# Altium integrated library TI Data Converters Analog to Digital Converter.IntLib: 2197 symbols (part 46 of 168)
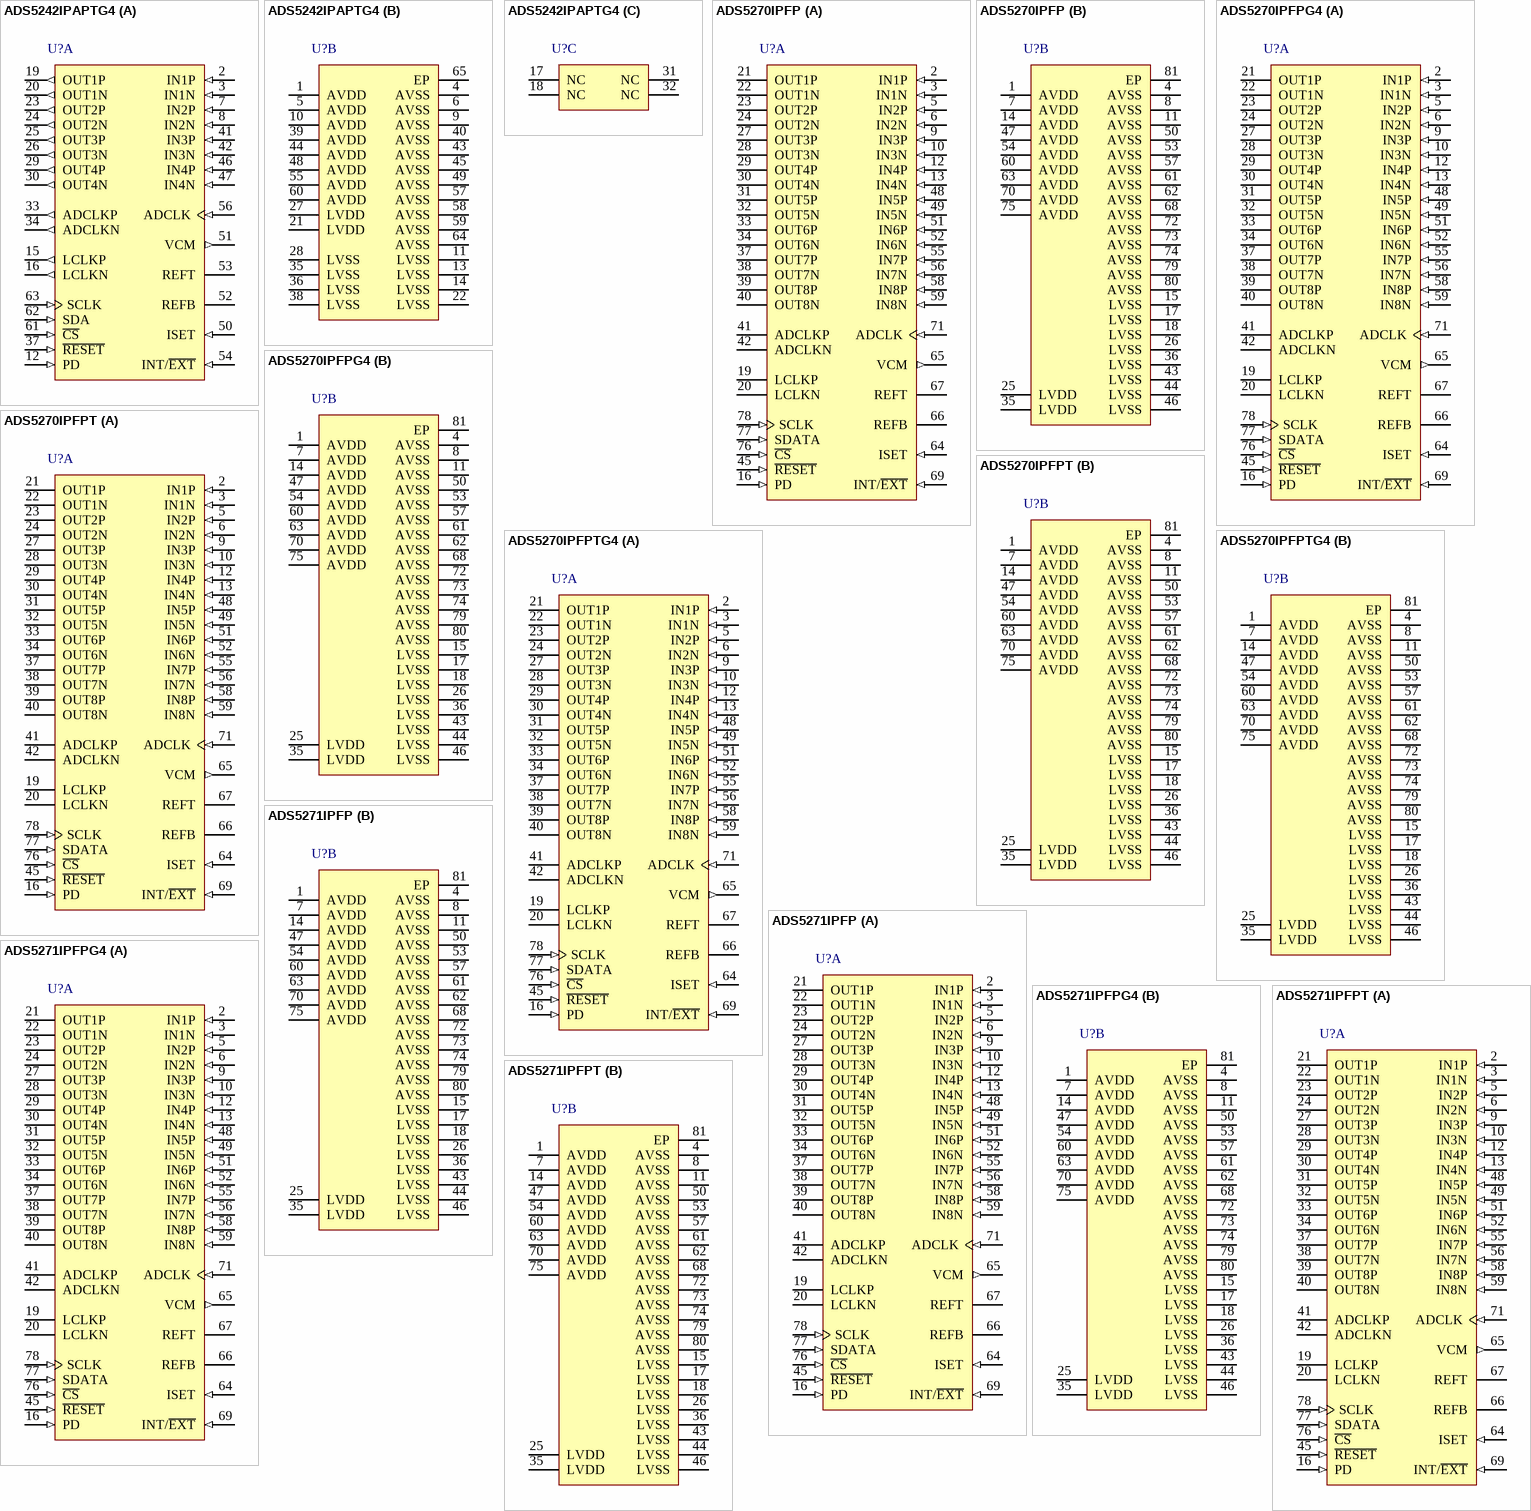
[diagram p171: symbols ADS5242IPAPTG4 to ADS5271IPFPT]

## ADS5271IPFPG4
designator U?
8-Channel, 12-Bit ADC with Serialized LVDS Interface, -40 to 85 degC, 80-pin QFP (PFP80), Green (RoHS & no Sb/Br); Manufacturer: Texas Instruments; PartNumber: ADS5271IPFPG4; # Input Channels: 8; Analog Voltage AV/DD(Max)(V): 3.6; Analog Voltage AV/DD(Min)(V): 3; Architecture: Pipeline; ENOB(Bits): 11.3; INL(Max)(+/-LSB): 2; Interface: Parallel LVDS; Resolution(Bits): 12; Sample Rate (max)(SPS): 50M; SFDR(dB): 87; SINAD(dB): 70; SNR(dB): 70.5; SubFamily: High Speed ADC (>10MSPS); DatasheetVersion: SBAS313C; PackageVersion: 4146925/C, 07/2011; PackageReference: PFP80-5445X5445TP; PackageDescription: 80-Pin PowerPAD(TM) Plastic Quad Flatpack, Body 12 x 12 mm, Pitch 0.5 mm; Supplier 1: Digi-Key; Supplier Part Number 1: 296-2823-5-ND; Supplier 2: Newark; Supplier Part Number 2: 76C6132; Supplier 3: Mouser; Supplier Part Number 3: 595-THS1007IDA; Digital Supply(Max)(V): 3.6; Digital Supply(Min)(V): 3; Eco-Plan: Green (RoHS & no Sb/Br); Mounting Technology: Surface Mount; Code_JEDEC: MS-026; ComponentLink1Description: Manufacturer URL; ComponentLink1URL: http://www.ti.com/; ComponentLink2Description: Datasheet; ComponentLink2URL: http://www.ti.com/general/docs/lit/getliterature.tsp?genericPartNumber=ADS5271&fileType=pdf; ComponentLink3Description: Package Specification; ComponentLink3URL: http://www.ti.com/litv/pdf/mpqf049b
footprint TI-PFP80-5445X5445TP_N (QFP, 80-Leads, Body 12x12mm, Pitch 0.5mm, Thermal Pad 6.2x6.2mm, IPC Medium Density)
footprint TI-PFP80-5445X5445TP_L (QFP, 80-Leads, Body 12x12mm, Pitch 0.5mm, Thermal Pad 6.2x6.2mm, IPC High Density)
footprint TI-PFP80-5445X5445TP_M (QFP, 80-Leads, Body 12x12mm, Pitch 0.5mm, Thermal Pad 6.2x6.2mm, IPC Low Density)
part A pins: 2 IN1P (in) "Channel 1 Differential Analog Input High", 3 IN1N (in) "Channel 1 Differential Analog Input Low", 5 IN2P (in) "Channel 2 Differential Analog Input High", 6 IN2N (in) "Channel 2 Differential Analog Input Low", 9 IN3P (in) "Channel 3 Differential Analog Input High", 10 IN3N (in) "Channel 3 Differential Analog Input Low", 12 IN4P (in) "Channel 4 Differential Analog Input High", 13 IN4N (in) "Channel 4 Differential Analog Input Low", 16 PD (in) "Power-Down; 0 = Normal, 1 = Power-Down. Weak pull-down to ground.", 19 LCLKP (hiz) "Positive LVDS Clock", 20 LCLKN (hiz) "Negative LVDS Clock", 21 OUT1P (hiz) "Channel 1 Positive LVDS Data Output", 22 OUT1N (hiz) "Channel 1 Negative LVDS Data Output", 23 OUT2P (hiz) "Channel 2 Positive LVDS Data Output", 24 OUT2N (hiz) "Channel 2 Negative LVDS Data Output", 27 OUT3P (hiz) "Channel 3 Positive LVDS Data Output", 28 OUT3N (hiz) "Channel 3 Negative LVDS Data Output", 29 OUT4P (hiz) "Channel 4 Positive LVDS Data Output", 30 OUT4N (hiz) "Channel 4 Negative LVDS Data Output", 31 OUT5P (hiz) "Channel 5 Positive LVDS Data Output", 32 OUT5N (hiz) "Channel 5 Negative LVDS Data Output", 33 OUT6P (hiz) "Channel 6 Positive LVDS Data Output", 34 OUT6N (hiz) "Channel 6 Negative LVDS Data Output", 37 OUT7P (hiz) "Channel 7 Positive LVDS Data Output", 38 OUT7N (hiz) "Channel 7 Negative LVDS Data Output", 39 OUT8P (hiz) "Channel 8 Positive LVDS Data Output", 40 OUT8N (hiz) "Channel 8 Negative LVDS Data Output", 41 ADCLKP (hiz) "Positive LVDS ADC Clock Output", 42 ADCLKN (hiz) "Negative LVDS ADC Clock Output", 45 ~{RESET} (in) "Reset to Default; 0 = Reset, 1 = Normal. Weak pull-down to ground.", 48 IN5P (in) "Channel 5 Differential Analog Input High", 49 IN5N (in) "Channel 5 Differential Analog Input Low", 51 IN6P (in) "Channel 6 Differential Analog Input High", 52 IN6N (in) "Channel 6 Differential Analog Input Low", 55 IN7P (in) "Channel 7 Differential Analog Input High", 56 IN7N (in) "Channel 7 Differential Analog Input Low", 58 IN8P (in) "Channel 8 Differential Analog Input High", 59 IN8N (in) "Channel 8 Differential Analog Input Low", 64 ISET (in) "Bias Current Setting Resistor of 56.2kohm to Ground", 65 VCM (out) "Common-Mode Output Voltage", 66 REFB "Reference Bottom Voltage (2ohm resistor in series with a capacitor >= 0.1uF capacitor to ground)", 67 REFT "Reference Top Voltage (2ohm resistor in series with a capacitor >= 0.1uF capacitor to ground)", 69 INT/~{EXT} (in) "Internal/External Reference Select; 0 = External, 1 = Internal. Weak pull-up to supply.", 71 ADCLK (in) "Data Converter Clock Input", 76 ~{CS} (in) "Chip Select; 0 = Select, 1 = No Select", 77 SDATA (in) "Serial Data input", 78 SCLK (in) "Serial Data Clock"
part B pins: 1 AVDD (power) "Analog Power Supply", 4 AVSS (power) "Analog Ground", 7 AVDD (power) "Analog Power Supply", 8 AVSS (power) "Analog Ground", 11 AVSS (power) "Analog Ground", 14 AVDD (power) "Analog Power Supply", 15 LVSS (power) "LVDS Ground", 17 LVSS (power) "LVDS Ground", 18 LVSS (power) "LVDS Ground", 25 LVDD (power) "LVDS Power Supply", 26 LVSS (power) "LVDS Ground", 35 LVDD (power) "LVDS Power Supply", 36 LVSS (power) "LVDS Ground", 43 LVSS (power) "LVDS Ground", 44 LVSS (power) "LVDS Ground", 46 LVSS (power) "LVDS Ground", 47 AVDD (power) "Analog Power Supply", 50 AVSS (power) "Analog Ground", 53 AVSS (power) "Analog Ground", 54 AVDD (power) "Analog Power Supply", 57 AVSS (power) "Analog Ground", 60 AVDD (power) "Analog Power Supply", 61 AVSS (power) "Analog Ground", 62 AVSS (power) "Analog Ground", 63 AVDD (power) "Analog Power Supply", 68 AVSS (power) "Analog Ground", 70 AVDD (power) "Analog Power Supply", 72 AVSS (power) "Analog Ground", 73 AVSS (power) "Analog Ground", 74 AVSS (power) "Analog Ground", 75 AVDD (power) "Analog Power Supply", 79 AVSS (power) "Analog Ground", 80 AVSS (power) "Analog Ground", 81 EP

## ADS5271IPFPT
designator U?
8-Channel, 12-Bit ADC with Serialized LVDS Interface, -40 to 85 degC, 80-pin QFP (PFP80), Green (RoHS & no Sb/Br); Manufacturer: Texas Instruments; PartNumber: ADS5271IPFPT; # Input Channels: 8; Analog Voltage AV/DD(Max)(V): 3.6; Analog Voltage AV/DD(Min)(V): 3; Architecture: Pipeline; ENOB(Bits): 11.3; INL(Max)(+/-LSB): 2; Interface: Parallel LVDS; Resolution(Bits): 12; Sample Rate (max)(SPS): 50M; SFDR(dB): 87; SINAD(dB): 70; SNR(dB): 70.5; SubFamily: High Speed ADC (>10MSPS); DatasheetVersion: SBAS313C; PackageVersion: 4146925/C, 07/2011; PackageReference: PFP80-5445X5445TP; PackageDescription: 80-Pin PowerPAD(TM) Plastic Quad Flatpack, Body 12 x 12 mm, Pitch 0.5 mm; Supplier 1: Digi-Key; Supplier Part Number 1: THS1007IDAG4-ND; Supplier 2: Mouser; Supplier Part Number 2: 595-THS1007IDAG4; Digital Supply(Max)(V): 3.6; Digital Supply(Min)(V): 3; Eco-Plan: Green (RoHS & no Sb/Br); Mounting Technology: Surface Mount; Code_JEDEC: MS-026; ComponentLink1Description: Manufacturer URL; ComponentLink1URL: http://www.ti.com/; ComponentLink2Description: Datasheet; ComponentLink2URL: http://www.ti.com/general/docs/lit/getliterature.tsp?genericPartNumber=ADS5271&fileType=pdf; ComponentLink3Description: Package Specification; ComponentLink3URL: http://www.ti.com/litv/pdf/mpqf049b
footprint TI-PFP80-5445X5445TP_N (QFP, 80-Leads, Body 12x12mm, Pitch 0.5mm, Thermal Pad 6.2x6.2mm, IPC Medium Density)
footprint TI-PFP80-5445X5445TP_L (QFP, 80-Leads, Body 12x12mm, Pitch 0.5mm, Thermal Pad 6.2x6.2mm, IPC High Density)
footprint TI-PFP80-5445X5445TP_M (QFP, 80-Leads, Body 12x12mm, Pitch 0.5mm, Thermal Pad 6.2x6.2mm, IPC Low Density)
part A pins: 2 IN1P (in) "Channel 1 Differential Analog Input High", 3 IN1N (in) "Channel 1 Differential Analog Input Low", 5 IN2P (in) "Channel 2 Differential Analog Input High", 6 IN2N (in) "Channel 2 Differential Analog Input Low", 9 IN3P (in) "Channel 3 Differential Analog Input High", 10 IN3N (in) "Channel 3 Differential Analog Input Low", 12 IN4P (in) "Channel 4 Differential Analog Input High", 13 IN4N (in) "Channel 4 Differential Analog Input Low", 16 PD (in) "Power-Down; 0 = Normal, 1 = Power-Down. Weak pull-down to ground.", 19 LCLKP (hiz) "Positive LVDS Clock", 20 LCLKN (hiz) "Negative LVDS Clock", 21 OUT1P (hiz) "Channel 1 Positive LVDS Data Output", 22 OUT1N (hiz) "Channel 1 Negative LVDS Data Output", 23 OUT2P (hiz) "Channel 2 Positive LVDS Data Output", 24 OUT2N (hiz) "Channel 2 Negative LVDS Data Output", 27 OUT3P (hiz) "Channel 3 Positive LVDS Data Output", 28 OUT3N (hiz) "Channel 3 Negative LVDS Data Output", 29 OUT4P (hiz) "Channel 4 Positive LVDS Data Output", 30 OUT4N (hiz) "Channel 4 Negative LVDS Data Output", 31 OUT5P (hiz) "Channel 5 Positive LVDS Data Output", 32 OUT5N (hiz) "Channel 5 Negative LVDS Data Output", 33 OUT6P (hiz) "Channel 6 Positive LVDS Data Output", 34 OUT6N (hiz) "Channel 6 Negative LVDS Data Output", 37 OUT7P (hiz) "Channel 7 Positive LVDS Data Output", 38 OUT7N (hiz) "Channel 7 Negative LVDS Data Output", 39 OUT8P (hiz) "Channel 8 Positive LVDS Data Output", 40 OUT8N (hiz) "Channel 8 Negative LVDS Data Output", 41 ADCLKP (hiz) "Positive LVDS ADC Clock Output", 42 ADCLKN (hiz) "Negative LVDS ADC Clock Output", 45 ~{RESET} (in) "Reset to Default; 0 = Reset, 1 = Normal. Weak pull-down to ground.", 48 IN5P (in) "Channel 5 Differential Analog Input High", 49 IN5N (in) "Channel 5 Differential Analog Input Low", 51 IN6P (in) "Channel 6 Differential Analog Input High", 52 IN6N (in) "Channel 6 Differential Analog Input Low", 55 IN7P (in) "Channel 7 Differential Analog Input High", 56 IN7N (in) "Channel 7 Differential Analog Input Low", 58 IN8P (in) "Channel 8 Differential Analog Input High", 59 IN8N (in) "Channel 8 Differential Analog Input Low", 64 ISET (in) "Bias Current Setting Resistor of 56.2kohm to Ground", 65 VCM (out) "Common-Mode Output Voltage", 66 REFB "Reference Bottom Voltage (2ohm resistor in series with a capacitor >= 0.1uF capacitor to ground)", 67 REFT "Reference Top Voltage (2ohm resistor in series with a capacitor >= 0.1uF capacitor to ground)", 69 INT/~{EXT} (in) "Internal/External Reference Select; 0 = External, 1 = Internal. Weak pull-up to supply.", 71 ADCLK (in) "Data Converter Clock Input", 76 ~{CS} (in) "Chip Select; 0 = Select, 1 = No Select", 77 SDATA (in) "Serial Data input", 78 SCLK (in) "Serial Data Clock"
part B pins: 1 AVDD (power) "Analog Power Supply", 4 AVSS (power) "Analog Ground", 7 AVDD (power) "Analog Power Supply", 8 AVSS (power) "Analog Ground", 11 AVSS (power) "Analog Ground", 14 AVDD (power) "Analog Power Supply", 15 LVSS (power) "LVDS Ground", 17 LVSS (power) "LVDS Ground", 18 LVSS (power) "LVDS Ground", 25 LVDD (power) "LVDS Power Supply", 26 LVSS (power) "LVDS Ground", 35 LVDD (power) "LVDS Power Supply", 36 LVSS (power) "LVDS Ground", 43 LVSS (power) "LVDS Ground", 44 LVSS (power) "LVDS Ground", 46 LVSS (power) "LVDS Ground", 47 AVDD (power) "Analog Power Supply", 50 AVSS (power) "Analog Ground", 53 AVSS (power) "Analog Ground", 54 AVDD (power) "Analog Power Supply", 57 AVSS (power) "Analog Ground", 60 AVDD (power) "Analog Power Supply", 61 AVSS (power) "Analog Ground", 62 AVSS (power) "Analog Ground", 63 AVDD (power) "Analog Power Supply", 68 AVSS (power) "Analog Ground", 70 AVDD (power) "Analog Power Supply", 72 AVSS (power) "Analog Ground", 73 AVSS (power) "Analog Ground", 74 AVSS (power) "Analog Ground", 75 AVDD (power) "Analog Power Supply", 79 AVSS (power) "Analog Ground", 80 AVSS (power) "Analog Ground", 81 EP

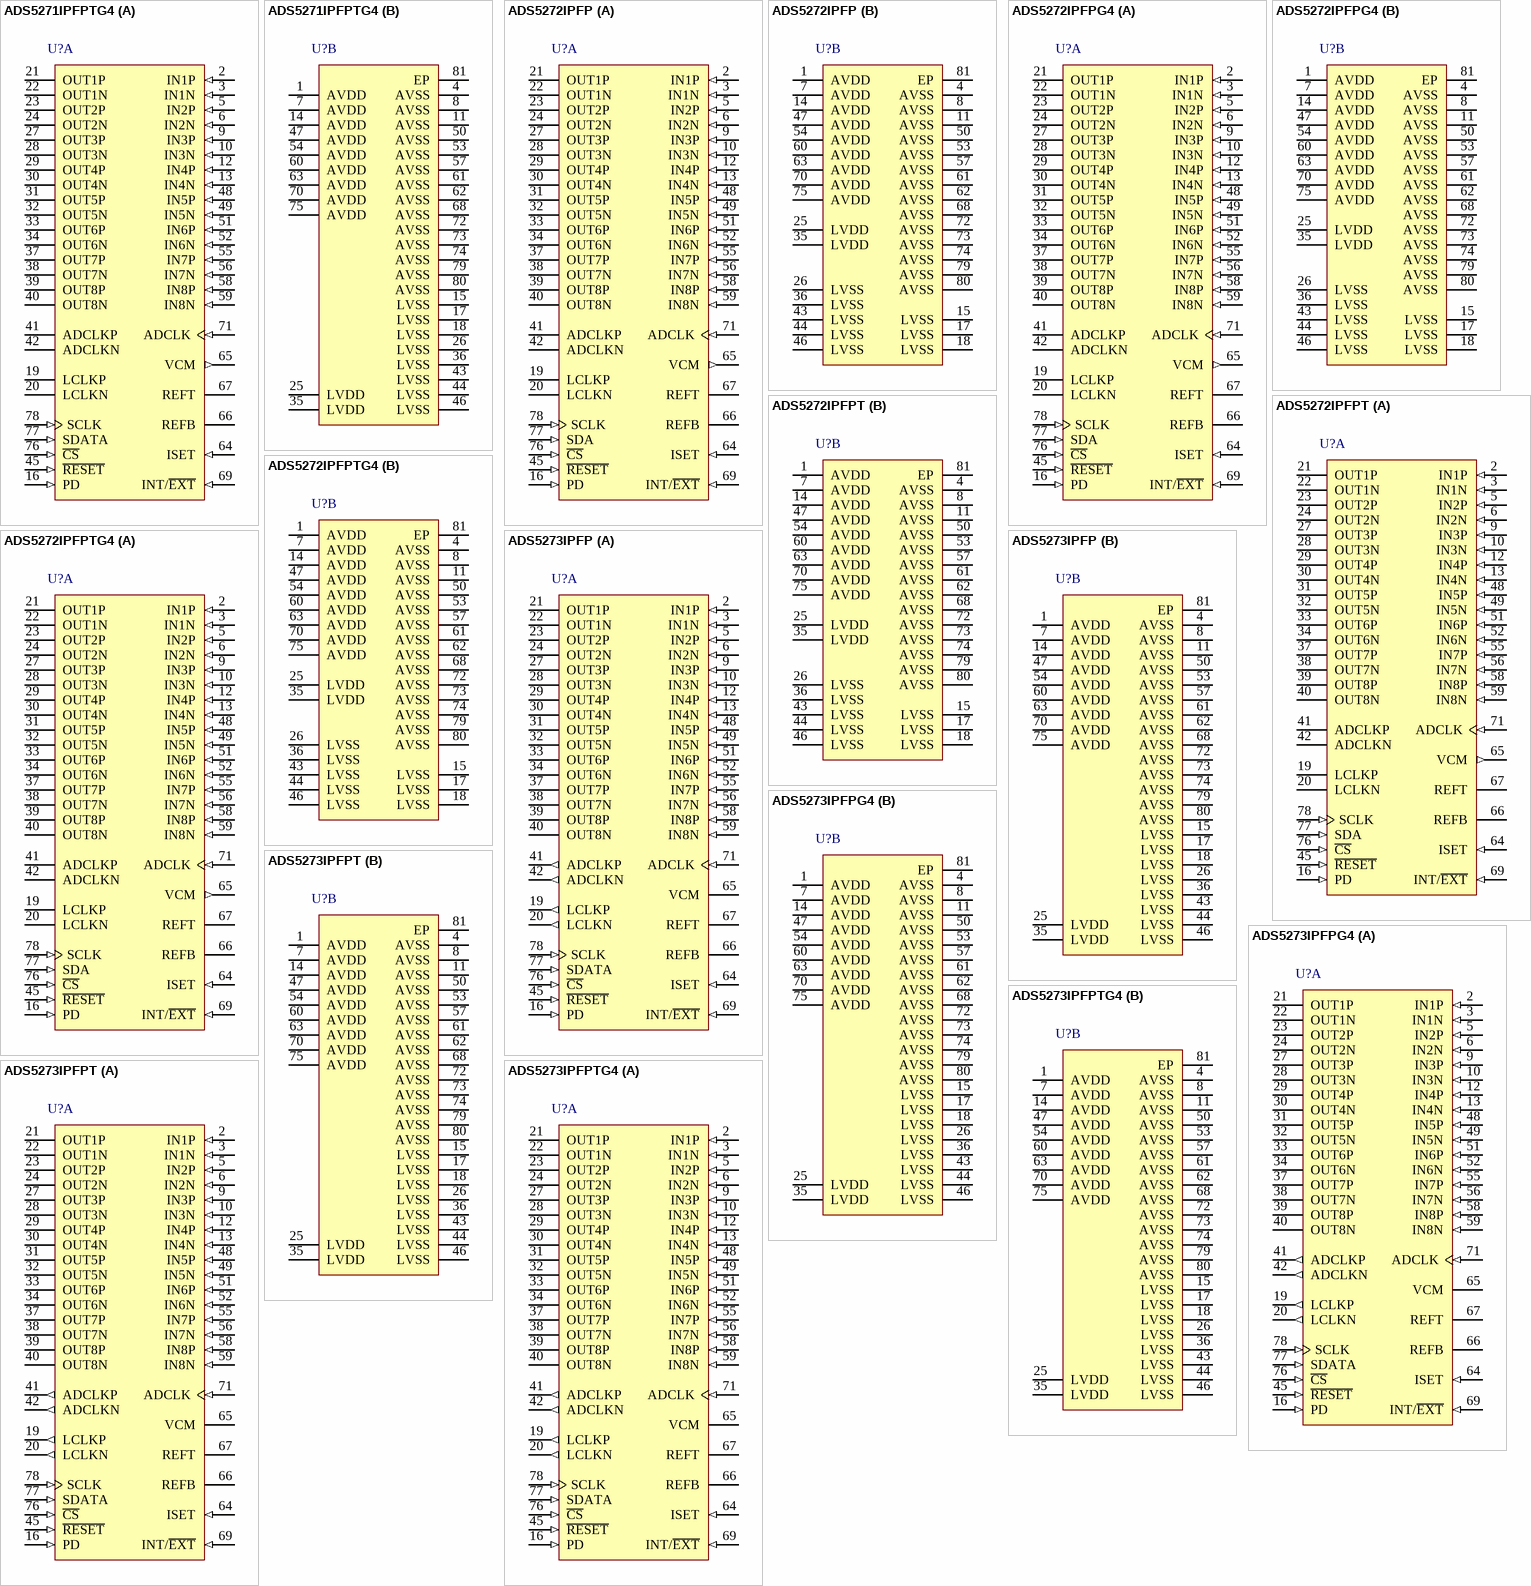
[diagram p42: symbols ADS5271IPFPTG4 to ADS5273IPFPTG4]

## ADS5271IPFPTG4
designator U?
8-Channel, 12-Bit ADC with Serialized LVDS Interface, -40 to 85 degC, 80-pin QFP (PFP80), Green (RoHS & no Sb/Br); Manufacturer: Texas Instruments; PartNumber: ADS5271IPFPTG4; # Input Channels: 8; Analog Voltage AV/DD(Max)(V): 3.6; Analog Voltage AV/DD(Min)(V): 3; Architecture: Pipeline; ENOB(Bits): 11.3; INL(Max)(+/-LSB): 2; Interface: Parallel LVDS; Resolution(Bits): 12; Sample Rate (max)(SPS): 50M; SFDR(dB): 87; SINAD(dB): 70; SNR(dB): 70.5; SubFamily: High Speed ADC (>10MSPS); DatasheetVersion: SBAS313C; PackageVersion: 4146925/C, 07/2011; PackageReference: PFP80-5445X5445TP; PackageDescription: 80-Pin PowerPAD(TM) Plastic Quad Flatpack, Body 12 x 12 mm, Pitch 0.5 mm; Supplier 1: Digi-Key; Supplier Part Number 1: 296-2824-5-ND; Supplier 2: Mouser; Supplier Part Number 2: 595-THS10082IDA; Digital Supply(Max)(V): 3.6; Digital Supply(Min)(V): 3; Eco-Plan: Green (RoHS & no Sb/Br); Mounting Technology: Surface Mount; Code_JEDEC: MS-026; ComponentLink1Description: Manufacturer URL; ComponentLink1URL: http://www.ti.com/; ComponentLink2Description: Datasheet; ComponentLink2URL: http://www.ti.com/general/docs/lit/getliterature.tsp?genericPartNumber=ADS5271&fileType=pdf; ComponentLink3Description: Package Specification; ComponentLink3URL: http://www.ti.com/litv/pdf/mpqf049b
footprint TI-PFP80-5445X5445TP_N (QFP, 80-Leads, Body 12x12mm, Pitch 0.5mm, Thermal Pad 6.2x6.2mm, IPC Medium Density)
footprint TI-PFP80-5445X5445TP_L (QFP, 80-Leads, Body 12x12mm, Pitch 0.5mm, Thermal Pad 6.2x6.2mm, IPC High Density)
footprint TI-PFP80-5445X5445TP_M (QFP, 80-Leads, Body 12x12mm, Pitch 0.5mm, Thermal Pad 6.2x6.2mm, IPC Low Density)
part A pins: 2 IN1P (in) "Channel 1 Differential Analog Input High", 3 IN1N (in) "Channel 1 Differential Analog Input Low", 5 IN2P (in) "Channel 2 Differential Analog Input High", 6 IN2N (in) "Channel 2 Differential Analog Input Low", 9 IN3P (in) "Channel 3 Differential Analog Input High", 10 IN3N (in) "Channel 3 Differential Analog Input Low", 12 IN4P (in) "Channel 4 Differential Analog Input High", 13 IN4N (in) "Channel 4 Differential Analog Input Low", 16 PD (in) "Power-Down; 0 = Normal, 1 = Power-Down. Weak pull-down to ground.", 19 LCLKP (hiz) "Positive LVDS Clock", 20 LCLKN (hiz) "Negative LVDS Clock", 21 OUT1P (hiz) "Channel 1 Positive LVDS Data Output", 22 OUT1N (hiz) "Channel 1 Negative LVDS Data Output", 23 OUT2P (hiz) "Channel 2 Positive LVDS Data Output", 24 OUT2N (hiz) "Channel 2 Negative LVDS Data Output", 27 OUT3P (hiz) "Channel 3 Positive LVDS Data Output", 28 OUT3N (hiz) "Channel 3 Negative LVDS Data Output", 29 OUT4P (hiz) "Channel 4 Positive LVDS Data Output", 30 OUT4N (hiz) "Channel 4 Negative LVDS Data Output", 31 OUT5P (hiz) "Channel 5 Positive LVDS Data Output", 32 OUT5N (hiz) "Channel 5 Negative LVDS Data Output", 33 OUT6P (hiz) "Channel 6 Positive LVDS Data Output", 34 OUT6N (hiz) "Channel 6 Negative LVDS Data Output", 37 OUT7P (hiz) "Channel 7 Positive LVDS Data Output", 38 OUT7N (hiz) "Channel 7 Negative LVDS Data Output", 39 OUT8P (hiz) "Channel 8 Positive LVDS Data Output", 40 OUT8N (hiz) "Channel 8 Negative LVDS Data Output", 41 ADCLKP (hiz) "Positive LVDS ADC Clock Output", 42 ADCLKN (hiz) "Negative LVDS ADC Clock Output", 45 ~{RESET} (in) "Reset to Default; 0 = Reset, 1 = Normal. Weak pull-down to ground.", 48 IN5P (in) "Channel 5 Differential Analog Input High", 49 IN5N (in) "Channel 5 Differential Analog Input Low", 51 IN6P (in) "Channel 6 Differential Analog Input High", 52 IN6N (in) "Channel 6 Differential Analog Input Low", 55 IN7P (in) "Channel 7 Differential Analog Input High", 56 IN7N (in) "Channel 7 Differential Analog Input Low", 58 IN8P (in) "Channel 8 Differential Analog Input High", 59 IN8N (in) "Channel 8 Differential Analog Input Low", 64 ISET (in) "Bias Current Setting Resistor of 56.2kohm to Ground", 65 VCM (out) "Common-Mode Output Voltage", 66 REFB "Reference Bottom Voltage (2ohm resistor in series with a capacitor >= 0.1uF capacitor to ground)", 67 REFT "Reference Top Voltage (2ohm resistor in series with a capacitor >= 0.1uF capacitor to ground)", 69 INT/~{EXT} (in) "Internal/External Reference Select; 0 = External, 1 = Internal. Weak pull-up to supply.", 71 ADCLK (in) "Data Converter Clock Input", 76 ~{CS} (in) "Chip Select; 0 = Select, 1 = No Select", 77 SDATA (in) "Serial Data input", 78 SCLK (in) "Serial Data Clock"
part B pins: 1 AVDD (power) "Analog Power Supply", 4 AVSS (power) "Analog Ground", 7 AVDD (power) "Analog Power Supply", 8 AVSS (power) "Analog Ground", 11 AVSS (power) "Analog Ground", 14 AVDD (power) "Analog Power Supply", 15 LVSS (power) "LVDS Ground", 17 LVSS (power) "LVDS Ground", 18 LVSS (power) "LVDS Ground", 25 LVDD (power) "LVDS Power Supply", 26 LVSS (power) "LVDS Ground", 35 LVDD (power) "LVDS Power Supply", 36 LVSS (power) "LVDS Ground", 43 LVSS (power) "LVDS Ground", 44 LVSS (power) "LVDS Ground", 46 LVSS (power) "LVDS Ground", 47 AVDD (power) "Analog Power Supply", 50 AVSS (power) "Analog Ground", 53 AVSS (power) "Analog Ground", 54 AVDD (power) "Analog Power Supply", 57 AVSS (power) "Analog Ground", 60 AVDD (power) "Analog Power Supply", 61 AVSS (power) "Analog Ground", 62 AVSS (power) "Analog Ground", 63 AVDD (power) "Analog Power Supply", 68 AVSS (power) "Analog Ground", 70 AVDD (power) "Analog Power Supply", 72 AVSS (power) "Analog Ground", 73 AVSS (power) "Analog Ground", 74 AVSS (power) "Analog Ground", 75 AVDD (power) "Analog Power Supply", 79 AVSS (power) "Analog Ground", 80 AVSS (power) "Analog Ground", 81 EP

## ADS5272IPFP
designator U?
8-Channel 65 MSPS Analog to Digital Converter, -40 to 85 degC, 80-pin QFP (PFP80), Green (RoHS & no Sb/Br); Manufacturer: Texas Instruments; PartNumber: ADS5272IPFP; # Input Channels: 8; Analog Voltage AV/DD(Max)(V): 3.6; Analog Voltage AV/DD(Min)(V): 3; Architecture: Pipeline; ENOB(Bits): 11.5; INL(Max)(+/-LSB): 2.5; Interface: Parallel LVDS; Resolution(Bits): 12; Sample Rate (max)(SPS): 65M; SFDR(dB): 90; SINAD(dB): 71.1; SNR(dB): 71.2; SubFamily: High Speed ADC (>10MSPS); DatasheetVersion: SBAS324C; PackageVersion: 4146925/C, 07/2011; PackageReference: PFP80-5445X5445TP; PackageDescription: 80-Pin PowerPAD(TM) Plastic Quad Flatpack, Body 12 x 12 mm, Pitch 0.5 mm; Supplier 1: Digi-Key; Supplier Part Number 1: THS10082IDAG4-ND; Supplier 2: Mouser; Supplier Part Number 2: 595-THS10082IDAG4; Digital Supply(Max)(V): 3.6; Digital Supply(Min)(V): 3; Eco-Plan: Green (RoHS & no Sb/Br); Mounting Technology: Surface Mount; Code_JEDEC: MS-026; ComponentLink1Description: Manufacturer URL; ComponentLink1URL: http://www.ti.com/; ComponentLink2Description: Datasheet; ComponentLink2URL: http://www.ti.com/general/docs/lit/getliterature.tsp?genericPartNumber=ADS5272&fileType=pdf; ComponentLink3Description: Package Specification; ComponentLink3URL: http://www.ti.com/litv/pdf/mpqf049b
footprint TI-PFP80-5445X5445TP_N (QFP, 80-Leads, Body 12x12mm, Pitch 0.5mm, Thermal Pad 6.2x6.2mm, IPC Medium Density)
footprint TI-PFP80-5445X5445TP_L (QFP, 80-Leads, Body 12x12mm, Pitch 0.5mm, Thermal Pad 6.2x6.2mm, IPC High Density)
footprint TI-PFP80-5445X5445TP_M (QFP, 80-Leads, Body 12x12mm, Pitch 0.5mm, Thermal Pad 6.2x6.2mm, IPC Low Density)
part A pins: 2 IN1P (in) "Channel 1 Differential Analog Input High", 3 IN1N (in) "Channel 1 Differential Analog Input Low", 5 IN2P (in) "Channel 2 Differential Analog Input High", 6 IN2N (in) "Channel 2 Differential Analog Input Low", 9 IN3P (in) "Channel 3 Differential Analog Input High", 10 IN3N (in) "Channel 3 Differential Analog Input Low", 12 IN4P (in) "Channel 4 Differential Analog Input High", 13 IN4N (in) "Channel 4 Differential Analog Input Low", 16 PD (in) "Power-Down; 0 = Normal, 1 = Power-Down. Weak pull-down to ground.", 19 LCLKP (hiz) "Positive LVDS Clock", 20 LCLKN (hiz) "Negative LVDS Clock", 21 OUT1P (hiz) "Channel 1 Positive LVDS Data Output", 22 OUT1N (hiz) "Channel 1 Negative LVDS Data Output", 23 OUT2P (hiz) "Channel 2 Positive LVDS Data Output", 24 OUT2N (hiz) "Channel 2 Negative LVDS Data Output", 27 OUT3P (hiz) "Channel 3 Positive LVDS Data Output", 28 OUT3N (hiz) "Channel 3 Negative LVDS Data Output", 29 OUT4P (hiz) "Channel 4 Positive LVDS Data Output", 30 OUT4N (hiz) "Channel 4 Negative LVDS Data Output", 31 OUT5P (hiz) "Channel 5 Positive LVDS Data Output", 32 OUT5N (hiz) "Channel 5 Negative LVDS Data Output", 33 OUT6P (hiz) "Channel 6 Positive LVDS Data Output", 34 OUT6N (hiz) "Channel 6 Negative LVDS Data Output", 37 OUT7P (hiz) "Channel 7 Positive LVDS Data Output", 38 OUT7N (hiz) "Channel 7 Negative LVDS Data Output", 39 OUT8P (hiz) "Channel 8 Positive LVDS Data Output", 40 OUT8N (hiz) "Channel 8 Negative LVDS Data Output", 41 ADCLKP (hiz) "Positive LVDS ADC Clock Output", 42 ADCLKN (hiz) "Negative LVDS ADC Clock Output", 45 ~{RESET} (in) "Reset to Default; 0 = Reset, 1 = Normal. Weak pull-down to ground.", 48 IN5P (in) "Channel 5 Differential Analog Input High", 49 IN5N (in) "Channel 5 Differential Analog Input Low", 51 IN6P (in) "Channel 6 Differential Analog Input High", 52 IN6N (in) "Channel 6 Differential Analog Input Low", 55 IN7P (in) "Channel 7 Differential Analog Input High", 56 IN7N (in) "Channel 7 Differential Analog Input Low", 58 IN8P (in) "Channel 8 Differential Analog Input High", 59 IN8N (in) "Channel 8 Differential Analog Input Low", 64 ISET (in) "Bias Current Setting Resistor of 56.2kohm to Ground", 65 VCM (out) "Common-Mode Output Voltage", 66 REFB "Reference Bottom Voltage (2ohm resistor in series with a capacitor >= 0.1uF capacitor to ground)", 67 REFT "Reference Top Voltage (2ohm resistor in series with a capacitor >= 0.1uF capacitor to ground)", 69 INT/~{EXT} (in) "Internal/External Reference Select; 0 = External, 1 = Internal. Weak pull-up to supply.", 71 ADCLK (in) "Data Converter Clock Input", 76 ~{CS} (in) "Chip Select; 0 = Select, 1 = No Select", 77 SDA (in) "Serial Data input", 78 SCLK (in) "Serial Data Clock"
part B pins: 1 AVDD (power) "Analog Power Supply", 4 AVSS (power) "Analog Ground", 7 AVDD (power) "Analog Power Supply", 8 AVSS (power) "Analog Ground", 11 AVSS (power) "Analog Ground", 14 AVDD (power) "Analog Power Supply", 15 LVSS (power) "LVDS Ground", 17 LVSS (power) "LVDS Ground", 18 LVSS (power) "LVDS Ground", 25 LVDD (power) "LVDS Power Supply", 26 LVSS (power) "LVDS Ground", 35 LVDD (power) "LVDS Power Supply", 36 LVSS (power) "LVDS Ground", 43 LVSS (power) "LVDS Ground", 44 LVSS (power) "LVDS Ground", 46 LVSS (power) "LVDS Ground", 47 AVDD (power) "Analog Power Supply", 50 AVSS (power) "Analog Ground", 53 AVSS (power) "Analog Ground", 54 AVDD (power) "Analog Power Supply", 57 AVSS (power) "Analog Ground", 60 AVDD (power) "Analog Power Supply", 61 AVSS (power) "Analog Ground", 62 AVSS (power) "Analog Ground", 63 AVDD (power) "Analog Power Supply", 68 AVSS (power) "Analog Ground", 70 AVDD (power) "Analog Power Supply", 72 AVSS (power) "Analog Ground", 73 AVSS (power) "Analog Ground", 74 AVSS (power) "Analog Ground", 75 AVDD (power) "Analog Power Supply", 79 AVSS (power) "Analog Ground", 80 AVSS (power) "Analog Ground", 81 EP

## ADS5272IPFPG4
designator U?
8-Channel 65 MSPS Analog to Digital Converter, -40 to 85 degC, 80-pin QFP (PFP80), Green (RoHS & no Sb/Br); Manufacturer: Texas Instruments; PartNumber: ADS5272IPFPG4; # Input Channels: 8; Analog Voltage AV/DD(Max)(V): 3.6; Analog Voltage AV/DD(Min)(V): 3; Architecture: Pipeline; ENOB(Bits): 11.5; INL(Max)(+/-LSB): 2.5; Interface: Parallel LVDS; Resolution(Bits): 12; Sample Rate (max)(SPS): 65M; SFDR(dB): 90; SINAD(dB): 71.1; SNR(dB): 71.2; SubFamily: High Speed ADC (>10MSPS); DatasheetVersion: SBAS324C; PackageVersion: 4146925/C, 07/2011; PackageReference: PFP80-5445X5445TP; PackageDescription: 80-Pin PowerPAD(TM) Plastic Quad Flatpack, Body 12 x 12 mm, Pitch 0.5 mm; Supplier 1: Digi-Key; Supplier Part Number 1: 296-2825-5-ND; Supplier 2: Farnell; Supplier Part Number 2: 1755368; Supplier 3: Newark; Supplier Part Number 3: 76C6142; Supplier 4: Mouser; Supplier Part Number 4: 595-THS1009IDA; Digital Supply(Max)(V): 3.6; Digital Supply(Min)(V): 3; Eco-Plan: Green (RoHS & no Sb/Br); Mounting Technology: Surface Mount; Code_JEDEC: MS-026; ComponentLink1Description: Manufacturer URL; ComponentLink1URL: http://www.ti.com/; ComponentLink2Description: Datasheet; ComponentLink2URL: http://www.ti.com/general/docs/lit/getliterature.tsp?genericPartNumber=ADS5272&fileType=pdf; ComponentLink3Description: Package Specification; ComponentLink3URL: http://www.ti.com/litv/pdf/mpqf049b
footprint TI-PFP80-5445X5445TP_N (QFP, 80-Leads, Body 12x12mm, Pitch 0.5mm, Thermal Pad 6.2x6.2mm, IPC Medium Density)
footprint TI-PFP80-5445X5445TP_L (QFP, 80-Leads, Body 12x12mm, Pitch 0.5mm, Thermal Pad 6.2x6.2mm, IPC High Density)
footprint TI-PFP80-5445X5445TP_M (QFP, 80-Leads, Body 12x12mm, Pitch 0.5mm, Thermal Pad 6.2x6.2mm, IPC Low Density)
part A pins: 2 IN1P (in) "Channel 1 Differential Analog Input High", 3 IN1N (in) "Channel 1 Differential Analog Input Low", 5 IN2P (in) "Channel 2 Differential Analog Input High", 6 IN2N (in) "Channel 2 Differential Analog Input Low", 9 IN3P (in) "Channel 3 Differential Analog Input High", 10 IN3N (in) "Channel 3 Differential Analog Input Low", 12 IN4P (in) "Channel 4 Differential Analog Input High", 13 IN4N (in) "Channel 4 Differential Analog Input Low", 16 PD (in) "Power-Down; 0 = Normal, 1 = Power-Down. Weak pull-down to ground.", 19 LCLKP (hiz) "Positive LVDS Clock", 20 LCLKN (hiz) "Negative LVDS Clock", 21 OUT1P (hiz) "Channel 1 Positive LVDS Data Output", 22 OUT1N (hiz) "Channel 1 Negative LVDS Data Output", 23 OUT2P (hiz) "Channel 2 Positive LVDS Data Output", 24 OUT2N (hiz) "Channel 2 Negative LVDS Data Output", 27 OUT3P (hiz) "Channel 3 Positive LVDS Data Output", 28 OUT3N (hiz) "Channel 3 Negative LVDS Data Output", 29 OUT4P (hiz) "Channel 4 Positive LVDS Data Output", 30 OUT4N (hiz) "Channel 4 Negative LVDS Data Output", 31 OUT5P (hiz) "Channel 5 Positive LVDS Data Output", 32 OUT5N (hiz) "Channel 5 Negative LVDS Data Output", 33 OUT6P (hiz) "Channel 6 Positive LVDS Data Output", 34 OUT6N (hiz) "Channel 6 Negative LVDS Data Output", 37 OUT7P (hiz) "Channel 7 Positive LVDS Data Output", 38 OUT7N (hiz) "Channel 7 Negative LVDS Data Output", 39 OUT8P (hiz) "Channel 8 Positive LVDS Data Output", 40 OUT8N (hiz) "Channel 8 Negative LVDS Data Output", 41 ADCLKP (hiz) "Positive LVDS ADC Clock Output", 42 ADCLKN (hiz) "Negative LVDS ADC Clock Output", 45 ~{RESET} (in) "Reset to Default; 0 = Reset, 1 = Normal. Weak pull-down to ground.", 48 IN5P (in) "Channel 5 Differential Analog Input High", 49 IN5N (in) "Channel 5 Differential Analog Input Low", 51 IN6P (in) "Channel 6 Differential Analog Input High", 52 IN6N (in) "Channel 6 Differential Analog Input Low", 55 IN7P (in) "Channel 7 Differential Analog Input High", 56 IN7N (in) "Channel 7 Differential Analog Input Low", 58 IN8P (in) "Channel 8 Differential Analog Input High", 59 IN8N (in) "Channel 8 Differential Analog Input Low", 64 ISET (in) "Bias Current Setting Resistor of 56.2kohm to Ground", 65 VCM (out) "Common-Mode Output Voltage", 66 REFB "Reference Bottom Voltage (2ohm resistor in series with a capacitor >= 0.1uF capacitor to ground)", 67 REFT "Reference Top Voltage (2ohm resistor in series with a capacitor >= 0.1uF capacitor to ground)", 69 INT/~{EXT} (in) "Internal/External Reference Select; 0 = External, 1 = Internal. Weak pull-up to supply.", 71 ADCLK (in) "Data Converter Clock Input", 76 ~{CS} (in) "Chip Select; 0 = Select, 1 = No Select", 77 SDA (in) "Serial Data input", 78 SCLK (in) "Serial Data Clock"
part B pins: 1 AVDD (power) "Analog Power Supply", 4 AVSS (power) "Analog Ground", 7 AVDD (power) "Analog Power Supply", 8 AVSS (power) "Analog Ground", 11 AVSS (power) "Analog Ground", 14 AVDD (power) "Analog Power Supply", 15 LVSS (power) "LVDS Ground", 17 LVSS (power) "LVDS Ground", 18 LVSS (power) "LVDS Ground", 25 LVDD (power) "LVDS Power Supply", 26 LVSS (power) "LVDS Ground", 35 LVDD (power) "LVDS Power Supply", 36 LVSS (power) "LVDS Ground", 43 LVSS (power) "LVDS Ground", 44 LVSS (power) "LVDS Ground", 46 LVSS (power) "LVDS Ground", 47 AVDD (power) "Analog Power Supply", 50 AVSS (power) "Analog Ground", 53 AVSS (power) "Analog Ground", 54 AVDD (power) "Analog Power Supply", 57 AVSS (power) "Analog Ground", 60 AVDD (power) "Analog Power Supply", 61 AVSS (power) "Analog Ground", 62 AVSS (power) "Analog Ground", 63 AVDD (power) "Analog Power Supply", 68 AVSS (power) "Analog Ground", 70 AVDD (power) "Analog Power Supply", 72 AVSS (power) "Analog Ground", 73 AVSS (power) "Analog Ground", 74 AVSS (power) "Analog Ground", 75 AVDD (power) "Analog Power Supply", 79 AVSS (power) "Analog Ground", 80 AVSS (power) "Analog Ground", 81 EP

## ADS5272IPFPT
designator U?
8-Channel 65 MSPS Analog to Digital Converter, -40 to 85 degC, 80-pin QFP (PFP80), Green (RoHS & no Sb/Br); Manufacturer: Texas Instruments; PartNumber: ADS5272IPFPT; # Input Channels: 8; Analog Voltage AV/DD(Max)(V): 3.6; Analog Voltage AV/DD(Min)(V): 3; Architecture: Pipeline; ENOB(Bits): 11.5; INL(Max)(+/-LSB): 2.5; Interface: Parallel LVDS; Resolution(Bits): 12; Sample Rate (max)(SPS): 65M; SFDR(dB): 90; SINAD(dB): 71.1; SNR(dB): 71.2; SubFamily: High Speed ADC (>10MSPS); DatasheetVersion: SBAS324C; PackageVersion: 4146925/C, 07/2011; PackageReference: PFP80-5445X5445TP; PackageDescription: 80-Pin PowerPAD(TM) Plastic Quad Flatpack, Body 12 x 12 mm, Pitch 0.5 mm; Supplier 1: Digi-Key; Supplier Part Number 1: THS1009IDAG4-ND; Supplier 2: Mouser; Supplier Part Number 2: 595-THS1009IDAG4; Digital Supply(Max)(V): 3.6; Digital Supply(Min)(V): 3; Eco-Plan: Green (RoHS & no Sb/Br); Mounting Technology: Surface Mount; Code_JEDEC: MS-026; ComponentLink1Description: Manufacturer URL; ComponentLink1URL: http://www.ti.com/; ComponentLink2Description: Datasheet; ComponentLink2URL: http://www.ti.com/general/docs/lit/getliterature.tsp?genericPartNumber=ADS5272&fileType=pdf; ComponentLink3Description: Package Specification; ComponentLink3URL: http://www.ti.com/litv/pdf/mpqf049b
footprint TI-PFP80-5445X5445TP_N (QFP, 80-Leads, Body 12x12mm, Pitch 0.5mm, Thermal Pad 6.2x6.2mm, IPC Medium Density)
footprint TI-PFP80-5445X5445TP_L (QFP, 80-Leads, Body 12x12mm, Pitch 0.5mm, Thermal Pad 6.2x6.2mm, IPC High Density)
footprint TI-PFP80-5445X5445TP_M (QFP, 80-Leads, Body 12x12mm, Pitch 0.5mm, Thermal Pad 6.2x6.2mm, IPC Low Density)
part A pins: 2 IN1P (in) "Channel 1 Differential Analog Input High", 3 IN1N (in) "Channel 1 Differential Analog Input Low", 5 IN2P (in) "Channel 2 Differential Analog Input High", 6 IN2N (in) "Channel 2 Differential Analog Input Low", 9 IN3P (in) "Channel 3 Differential Analog Input High", 10 IN3N (in) "Channel 3 Differential Analog Input Low", 12 IN4P (in) "Channel 4 Differential Analog Input High", 13 IN4N (in) "Channel 4 Differential Analog Input Low", 16 PD (in) "Power-Down; 0 = Normal, 1 = Power-Down. Weak pull-down to ground.", 19 LCLKP (hiz) "Positive LVDS Clock", 20 LCLKN (hiz) "Negative LVDS Clock", 21 OUT1P (hiz) "Channel 1 Positive LVDS Data Output", 22 OUT1N (hiz) "Channel 1 Negative LVDS Data Output", 23 OUT2P (hiz) "Channel 2 Positive LVDS Data Output", 24 OUT2N (hiz) "Channel 2 Negative LVDS Data Output", 27 OUT3P (hiz) "Channel 3 Positive LVDS Data Output", 28 OUT3N (hiz) "Channel 3 Negative LVDS Data Output", 29 OUT4P (hiz) "Channel 4 Positive LVDS Data Output", 30 OUT4N (hiz) "Channel 4 Negative LVDS Data Output", 31 OUT5P (hiz) "Channel 5 Positive LVDS Data Output", 32 OUT5N (hiz) "Channel 5 Negative LVDS Data Output", 33 OUT6P (hiz) "Channel 6 Positive LVDS Data Output", 34 OUT6N (hiz) "Channel 6 Negative LVDS Data Output", 37 OUT7P (hiz) "Channel 7 Positive LVDS Data Output", 38 OUT7N (hiz) "Channel 7 Negative LVDS Data Output", 39 OUT8P (hiz) "Channel 8 Positive LVDS Data Output", 40 OUT8N (hiz) "Channel 8 Negative LVDS Data Output", 41 ADCLKP (hiz) "Positive LVDS ADC Clock Output", 42 ADCLKN (hiz) "Negative LVDS ADC Clock Output", 45 ~{RESET} (in) "Reset to Default; 0 = Reset, 1 = Normal. Weak pull-down to ground.", 48 IN5P (in) "Channel 5 Differential Analog Input High", 49 IN5N (in) "Channel 5 Differential Analog Input Low", 51 IN6P (in) "Channel 6 Differential Analog Input High", 52 IN6N (in) "Channel 6 Differential Analog Input Low", 55 IN7P (in) "Channel 7 Differential Analog Input High", 56 IN7N (in) "Channel 7 Differential Analog Input Low", 58 IN8P (in) "Channel 8 Differential Analog Input High", 59 IN8N (in) "Channel 8 Differential Analog Input Low", 64 ISET (in) "Bias Current Setting Resistor of 56.2kohm to Ground", 65 VCM (out) "Common-Mode Output Voltage", 66 REFB "Reference Bottom Voltage (2ohm resistor in series with a capacitor >= 0.1uF capacitor to ground)", 67 REFT "Reference Top Voltage (2ohm resistor in series with a capacitor >= 0.1uF capacitor to ground)", 69 INT/~{EXT} (in) "Internal/External Reference Select; 0 = External, 1 = Internal. Weak pull-up to supply.", 71 ADCLK (in) "Data Converter Clock Input", 76 ~{CS} (in) "Chip Select; 0 = Select, 1 = No Select", 77 SDA (in) "Serial Data input", 78 SCLK (in) "Serial Data Clock"
part B pins: 1 AVDD (power) "Analog Power Supply", 4 AVSS (power) "Analog Ground", 7 AVDD (power) "Analog Power Supply", 8 AVSS (power) "Analog Ground", 11 AVSS (power) "Analog Ground", 14 AVDD (power) "Analog Power Supply", 15 LVSS (power) "LVDS Ground", 17 LVSS (power) "LVDS Ground", 18 LVSS (power) "LVDS Ground", 25 LVDD (power) "LVDS Power Supply", 26 LVSS (power) "LVDS Ground", 35 LVDD (power) "LVDS Power Supply", 36 LVSS (power) "LVDS Ground", 43 LVSS (power) "LVDS Ground", 44 LVSS (power) "LVDS Ground", 46 LVSS (power) "LVDS Ground", 47 AVDD (power) "Analog Power Supply", 50 AVSS (power) "Analog Ground", 53 AVSS (power) "Analog Ground", 54 AVDD (power) "Analog Power Supply", 57 AVSS (power) "Analog Ground", 60 AVDD (power) "Analog Power Supply", 61 AVSS (power) "Analog Ground", 62 AVSS (power) "Analog Ground", 63 AVDD (power) "Analog Power Supply", 68 AVSS (power) "Analog Ground", 70 AVDD (power) "Analog Power Supply", 72 AVSS (power) "Analog Ground", 73 AVSS (power) "Analog Ground", 74 AVSS (power) "Analog Ground", 75 AVDD (power) "Analog Power Supply", 79 AVSS (power) "Analog Ground", 80 AVSS (power) "Analog Ground", 81 EP

## ADS5272IPFPTG4
designator U?
8-Channel 65 MSPS Analog to Digital Converter, -40 to 85 degC, 80-pin QFP (PFP80), Green (RoHS & no Sb/Br); Manufacturer: Texas Instruments; PartNumber: ADS5272IPFPTG4; # Input Channels: 8; Analog Voltage AV/DD(Max)(V): 3.6; Analog Voltage AV/DD(Min)(V): 3; Architecture: Pipeline; ENOB(Bits): 11.5; INL(Max)(+/-LSB): 2.5; Interface: Parallel LVDS; Resolution(Bits): 12; Sample Rate (max)(SPS): 65M; SFDR(dB): 90; SINAD(dB): 71.1; SNR(dB): 71.2; SubFamily: High Speed ADC (>10MSPS); DatasheetVersion: SBAS324C; PackageVersion: 4146925/C, 07/2011; PackageReference: PFP80-5445X5445TP; PackageDescription: 80-Pin PowerPAD(TM) Plastic Quad Flatpack, Body 12 x 12 mm, Pitch 0.5 mm; Supplier 1: Digi-Key; Supplier Part Number 1: 296-2836-5-ND; Supplier 2: Mouser; Supplier Part Number 2: 595-THS1209IDA; Digital Supply(Max)(V): 3.6; Digital Supply(Min)(V): 3; Eco-Plan: Green (RoHS & no Sb/Br); Mounting Technology: Surface Mount; Code_JEDEC: MS-026; ComponentLink1Description: Manufacturer URL; ComponentLink1URL: http://www.ti.com/; ComponentLink2Description: Datasheet; ComponentLink2URL: http://www.ti.com/general/docs/lit/getliterature.tsp?genericPartNumber=ADS5272&fileType=pdf; ComponentLink3Description: Package Specification; ComponentLink3URL: http://www.ti.com/litv/pdf/mpqf049b
footprint TI-PFP80-5445X5445TP_N (QFP, 80-Leads, Body 12x12mm, Pitch 0.5mm, Thermal Pad 6.2x6.2mm, IPC Medium Density)
footprint TI-PFP80-5445X5445TP_L (QFP, 80-Leads, Body 12x12mm, Pitch 0.5mm, Thermal Pad 6.2x6.2mm, IPC High Density)
footprint TI-PFP80-5445X5445TP_M (QFP, 80-Leads, Body 12x12mm, Pitch 0.5mm, Thermal Pad 6.2x6.2mm, IPC Low Density)
part A pins: 2 IN1P (in) "Channel 1 Differential Analog Input High", 3 IN1N (in) "Channel 1 Differential Analog Input Low", 5 IN2P (in) "Channel 2 Differential Analog Input High", 6 IN2N (in) "Channel 2 Differential Analog Input Low", 9 IN3P (in) "Channel 3 Differential Analog Input High", 10 IN3N (in) "Channel 3 Differential Analog Input Low", 12 IN4P (in) "Channel 4 Differential Analog Input High", 13 IN4N (in) "Channel 4 Differential Analog Input Low", 16 PD (in) "Power-Down; 0 = Normal, 1 = Power-Down. Weak pull-down to ground.", 19 LCLKP (hiz) "Positive LVDS Clock", 20 LCLKN (hiz) "Negative LVDS Clock", 21 OUT1P (hiz) "Channel 1 Positive LVDS Data Output", 22 OUT1N (hiz) "Channel 1 Negative LVDS Data Output", 23 OUT2P (hiz) "Channel 2 Positive LVDS Data Output", 24 OUT2N (hiz) "Channel 2 Negative LVDS Data Output", 27 OUT3P (hiz) "Channel 3 Positive LVDS Data Output", 28 OUT3N (hiz) "Channel 3 Negative LVDS Data Output", 29 OUT4P (hiz) "Channel 4 Positive LVDS Data Output", 30 OUT4N (hiz) "Channel 4 Negative LVDS Data Output", 31 OUT5P (hiz) "Channel 5 Positive LVDS Data Output", 32 OUT5N (hiz) "Channel 5 Negative LVDS Data Output", 33 OUT6P (hiz) "Channel 6 Positive LVDS Data Output", 34 OUT6N (hiz) "Channel 6 Negative LVDS Data Output", 37 OUT7P (hiz) "Channel 7 Positive LVDS Data Output", 38 OUT7N (hiz) "Channel 7 Negative LVDS Data Output", 39 OUT8P (hiz) "Channel 8 Positive LVDS Data Output", 40 OUT8N (hiz) "Channel 8 Negative LVDS Data Output", 41 ADCLKP (hiz) "Positive LVDS ADC Clock Output", 42 ADCLKN (hiz) "Negative LVDS ADC Clock Output", 45 ~{RESET} (in) "Reset to Default; 0 = Reset, 1 = Normal. Weak pull-down to ground.", 48 IN5P (in) "Channel 5 Differential Analog Input High", 49 IN5N (in) "Channel 5 Differential Analog Input Low", 51 IN6P (in) "Channel 6 Differential Analog Input High", 52 IN6N (in) "Channel 6 Differential Analog Input Low", 55 IN7P (in) "Channel 7 Differential Analog Input High", 56 IN7N (in) "Channel 7 Differential Analog Input Low", 58 IN8P (in) "Channel 8 Differential Analog Input High", 59 IN8N (in) "Channel 8 Differential Analog Input Low", 64 ISET (in) "Bias Current Setting Resistor of 56.2kohm to Ground", 65 VCM (out) "Common-Mode Output Voltage", 66 REFB "Reference Bottom Voltage (2ohm resistor in series with a capacitor >= 0.1uF capacitor to ground)", 67 REFT "Reference Top Voltage (2ohm resistor in series with a capacitor >= 0.1uF capacitor to ground)", 69 INT/~{EXT} (in) "Internal/External Reference Select; 0 = External, 1 = Internal. Weak pull-up to supply.", 71 ADCLK (in) "Data Converter Clock Input", 76 ~{CS} (in) "Chip Select; 0 = Select, 1 = No Select", 77 SDA (in) "Serial Data input", 78 SCLK (in) "Serial Data Clock"
part B pins: 1 AVDD (power) "Analog Power Supply", 4 AVSS (power) "Analog Ground", 7 AVDD (power) "Analog Power Supply", 8 AVSS (power) "Analog Ground", 11 AVSS (power) "Analog Ground", 14 AVDD (power) "Analog Power Supply", 15 LVSS (power) "LVDS Ground", 17 LVSS (power) "LVDS Ground", 18 LVSS (power) "LVDS Ground", 25 LVDD (power) "LVDS Power Supply", 26 LVSS (power) "LVDS Ground", 35 LVDD (power) "LVDS Power Supply", 36 LVSS (power) "LVDS Ground", 43 LVSS (power) "LVDS Ground", 44 LVSS (power) "LVDS Ground", 46 LVSS (power) "LVDS Ground", 47 AVDD (power) "Analog Power Supply", 50 AVSS (power) "Analog Ground", 53 AVSS (power) "Analog Ground", 54 AVDD (power) "Analog Power Supply", 57 AVSS (power) "Analog Ground", 60 AVDD (power) "Analog Power Supply", 61 AVSS (power) "Analog Ground", 62 AVSS (power) "Analog Ground", 63 AVDD (power) "Analog Power Supply", 68 AVSS (power) "Analog Ground", 70 AVDD (power) "Analog Power Supply", 72 AVSS (power) "Analog Ground", 73 AVSS (power) "Analog Ground", 74 AVSS (power) "Analog Ground", 75 AVDD (power) "Analog Power Supply", 79 AVSS (power) "Analog Ground", 80 AVSS (power) "Analog Ground", 81 EP

## ADS5273IPFP
designator U?
8-Channel, 12-Bit, 70 MSPS ADC with Serialized LVDS Interface, -40 to 85 degC, 80-pin QFP (PFP80), Green (RoHS & no Sb/Br); Manufacturer: Texas Instruments; PartNumber: ADS5273IPFP; # Input Channels: 8; Analog Voltage AV/DD(Max)(V): 3.6; Analog Voltage AV/DD(Min)(V): 3; Architecture: Pipeline; ENOB(Bits): 11.5; Interface: Parallel LVDS; Resolution(Bits): 12; Sample Rate (max)(SPS): 70M; SFDR(dB): 92; SINAD(dB): 71; SNR(dB): 71.1; SubFamily: High Speed ADC (>10MSPS); DatasheetVersion: SBAS305D; PackageVersion: 4146925/C, 07/2011; PackageReference: PFP80-5445X5445TP; PackageDescription: 80-Pin PowerPAD(TM) Plastic Quad Flatpack, Body 12 x 12 mm, Pitch 0.5 mm; Supplier 1: Digi-Key; Supplier Part Number 1: THS1209IDAG4-ND; Supplier 2: Mouser; Supplier Part Number 2: 595-THS1209IDAG4; Digital Supply(Max)(V): 3.6; Digital Supply(Min)(V): 3; Eco-Plan: Green (RoHS & no Sb/Br); INL(Max)(+/-LSB): 3; Mounting Technology: Surface Mount; Code_JEDEC: MS-026; ComponentLink1Description: Manufacturer URL; ComponentLink1URL: http://www.ti.com/; ComponentLink2Description: Datasheet; ComponentLink2URL: http://www.ti.com/general/docs/lit/getliterature.tsp?genericPartNumber=ADS5273&fileType=pdf; ComponentLink3Description: Package Specification; ComponentLink3URL: http://www.ti.com/litv/pdf/mpqf049b
footprint TI-PFP80-5445X5445TP_N (QFP, 80-Leads, Body 12x12mm, Pitch 0.5mm, Thermal Pad 6.2x6.2mm, IPC Medium Density)
footprint TI-PFP80-5445X5445TP_L (QFP, 80-Leads, Body 12x12mm, Pitch 0.5mm, Thermal Pad 6.2x6.2mm, IPC High Density)
footprint TI-PFP80-5445X5445TP_M (QFP, 80-Leads, Body 12x12mm, Pitch 0.5mm, Thermal Pad 6.2x6.2mm, IPC Low Density)
part A pins: 2 IN1P (in) "Channel 1 Differential Analog Input High", 3 IN1N (in) "Channel 1 Differential Analog Input Low", 5 IN2P (in) "Channel 2 Differential Analog Input High", 6 IN2N (in) "Channel 2 Differential Analog Input Low", 9 IN3P (in) "Channel 3 Differential Analog Input High", 10 IN3N (in) "Channel 3 Differential Analog Input Low", 12 IN4P (in) "Channel 4 Differential Analog Input High", 13 IN4N (in) "Channel 4 Differential Analog Input Low", 16 PD (in) "Power-Down; 0 = Normal, 1 = Power-Down. Weak pull-down to ground.", 19 LCLKP (out) "Positive LVDS Clock", 20 LCLKN (out) "Negative LVDS Clock", 21 OUT1P (hiz) "Channel 1 Positive LVDS Data Output", 22 OUT1N (hiz) "Channel 1 Negative LVDS Data Output", 23 OUT2P (hiz) "Channel 2 Positive LVDS Data Output", 24 OUT2N (hiz) "Channel 2 Negative LVDS Data Output", 27 OUT3P (hiz) "Channel 3 Positive LVDS Data Output", 28 OUT3N (hiz) "Channel 3 Negative LVDS Data Output", 29 OUT4P (hiz) "Channel 4 Positive LVDS Data Output", 30 OUT4N (hiz) "Channel 4 Negative LVDS Data Output", 31 OUT5P (hiz) "Channel 5 Positive LVDS Data Output", 32 OUT5N (hiz) "Channel 5 Negative LVDS Data Output", 33 OUT6P (hiz) "Channel 6 Positive LVDS Data Output", 34 OUT6N (hiz) "Channel 6 Negative LVDS Data Output", 37 OUT7P (hiz) "Channel 7 Positive LVDS Data Output", 38 OUT7N (hiz) "Channel 7 Negative LVDS Data Output", 39 OUT8P (hiz) "Channel 8 Positive LVDS Data Output", 40 OUT8N (hiz) "Channel 8 Negative LVDS Data Output", 41 ADCLKP (out) "Positive LVDS ADC Clock Output", 42 ADCLKN (out) "Negative LVDS ADC Clock Output", 45 ~{RESET} (in) "Reset to Default; 0 = Reset, 1 = Normal. Weak pull-down to ground.", 48 IN5P (in) "Channel 5 Differential Analog Input High", 49 IN5N (in) "Channel 5 Differential Analog Input Low", 51 IN6P (in) "Channel 6 Differential Analog Input High", 52 IN6N (in) "Channel 6 Differential Analog Input Low", 55 IN7P (in) "Channel 7 Differential Analog Input High", 56 IN7N (in) "Channel 7 Differential Analog Input Low", 58 IN8P (in) "Channel 8 Differential Analog Input High", 59 IN8N (in) "Channel 8 Differential Analog Input Low", 64 ISET (in) "Bias Current Setting Resistor of 56.2kohm to Ground", 65 VCM (hiz) "Common-Mode Output Voltage", 66 REFB "Reference Bottom Voltage (2ohm resistor in series with a >= 0.1uF capacitor to ground)", 67 REFT "Reference Top Voltage (2ohm resistor in series with a >= 0.1uF capacitor to ground)", 69 INT/~{EXT} (in) "Internal/External Reference Select; 0 = External, 1 = Internal. Weak pull-up to supply.", 71 ADCLK (in) "Data Converter Clock Input", 76 ~{CS} (in) "Chip Select; 0 = Select, 1 = No Select", 77 SDATA (in) "Serial Data Input", 78 SCLK (in) "Serial Data Clock"
part B pins: 1 AVDD (power) "Analog Power Supply", 4 AVSS (power) "Analog Ground", 7 AVDD (power) "Analog Power Supply", 8 AVSS (power) "Analog Ground", 11 AVSS (power) "Analog Ground", 14 AVDD (power) "Analog Power Supply", 15 LVSS (power) "LVDS Ground", 17 LVSS (power) "LVDS Ground", 18 LVSS (power) "LVDS Ground", 25 LVDD (power) "LVDS Power Supply", 26 LVSS (power) "LVDS Ground", 35 LVDD (power) "LVDS Power Supply", 36 LVSS (power) "LVDS Ground", 43 LVSS (power) "LVDS Ground", 44 LVSS (power) "LVDS Ground", 46 LVSS (power) "LVDS Ground", 47 AVDD (power) "Analog Power Supply", 50 AVSS (power) "Analog Ground", 53 AVSS (power) "Analog Ground", 54 AVDD (power) "Analog Power Supply", 57 AVSS (power) "Analog Ground", 60 AVDD (power) "Analog Power Supply", 61 AVSS (power) "Analog Ground", 62 AVSS (power) "Analog Ground", 63 AVDD (power) "Analog Power Supply", 68 AVSS (power) "Analog Ground", 70 AVDD (power) "Analog Power Supply", 72 AVSS (power) "Analog Ground", 73 AVSS (power) "Analog Ground", 74 AVSS (power) "Analog Ground", 75 AVDD (power) "Analog Power Supply", 79 AVSS (power) "Analog Ground", 80 AVSS (power) "Analog Ground", 81 EP